# Altium schematic symbol library FCR7350R.SchLib: 1 symbol
Pins are listed as number, name and electrical type; pins without a type are passive.

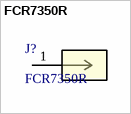
[diagram p0: symbol FCR7350R]

## FCR7350R
designator J?
Description; Manufacturer_Name: Cliff; Copyright: Copyright (C) 2026 Ultra Librarian. All rights reserved.; Manufacturer_Part_Number: FCR7350R; RefDes: RefDes; Type: Type
footprint CONN1_FCR7350R_CLF
pins: 1